# Altium footprint library con-thomas-betts.PCBLIB: 58 footprints (part 4 of 4)
Each footprint in its own frame and in the unit in brackets; x right, y up, seen from the top. Pads: shape width x height; smd on the part's side, far side on the other; paste and mask are expansions set on the pad; w line width, h text height; cw(c..) or ccw(c..) is an arc to the next point about the centre after c.
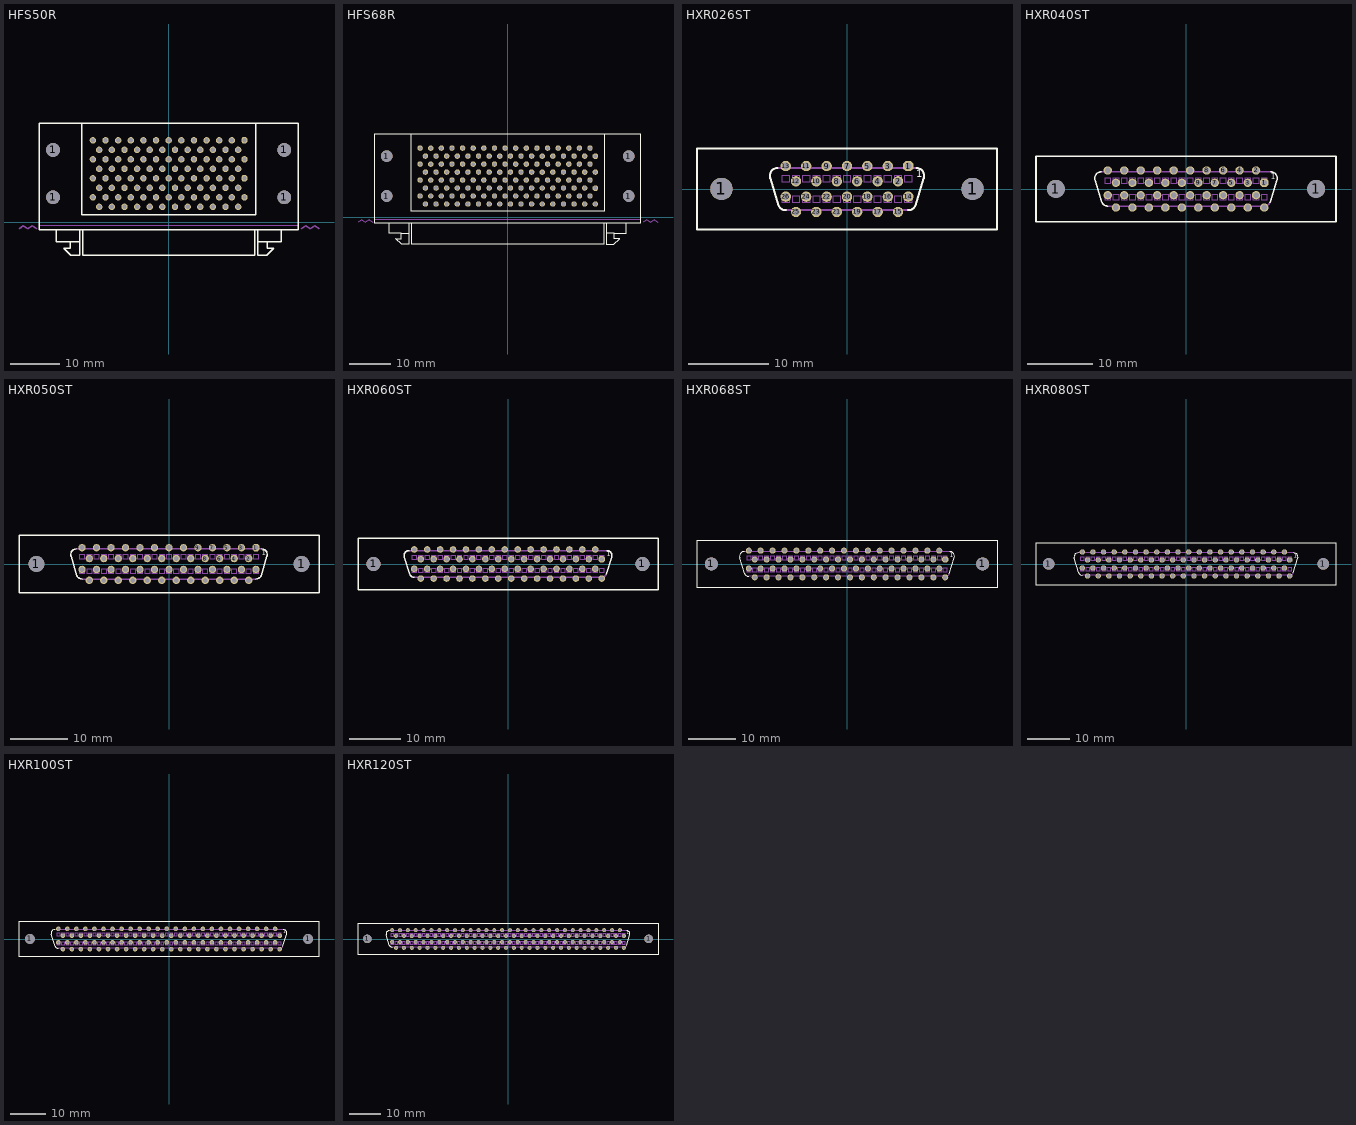
[diagram p3: the footprints below, top view; thin cyan lines are the x and y axes]

## HFS50R [mil]
pads (104):
  round 109 hole 109: 1(-915,198.82) 1(-915,574.8) 1(915,198.82) 1(915,574.8)
  oct 51x51 hole 34: 1-1(600,349.21) 2-1(600,650)
  round 51 hole 34: 1-2(550,274.02) 1-3(500,349.21) 1-4(450,274.02) 1-5(400,349.21) 1-6(350,274.02) 1-7(300,349.21) 1-8(250,274.02) 1-9(200,349.21) 1-10(150,274.02) 1-11(100,349.21) 1-12(50,274.02) 1-13(0,349.21) 1-14(-50,274.02) 1-15(-100,349.21) 1-16(-150,274.02) 1-17(-200,349.21) 1-18(-250,274.02) 1-19(-300,349.21) 1-20(-350,274.02) 1-21(-400,349.21) 1-22(-450,274.02) 1-23(-500,349.21) 1-24(-550,274.02) 1-25(-600,349.21) 1-26(600,198.82) 1-27(550,123.62) 1-28(500,198.82) 1-29(450,123.62) 1-30(400,198.82) 1-31(350,123.62) 1-32(300,198.82) 1-33(250,123.62) 1-34(200,198.82) 1-35(150,123.62) 1-36(100,198.82) 1-37(50,123.62) 1-38(0,198.82) 1-39(-50,123.62) 1-40(-100,198.82) 1-41(-150,123.62) 1-42(-200,198.82) 1-43(-250,123.62) 1-44(-300,198.82) 1-45(-350,123.62) 1-46(-400,198.82) 1-47(-450,123.62) 1-48(-500,198.82) 1-49(-550,123.62) 1-50(-600,198.82) 2-2(550,574.8) 2-3(500,650) 2-4(450,574.8) 2-5(400,650) 2-6(350,574.8) 2-7(300,650) 2-8(250,574.8) 2-9(200,650) 2-10(150,574.8) 2-11(100,650) 2-12(50,574.8) 2-13(0,650) 2-14(-50,574.8) 2-15(-100,650) 2-16(-150,574.8) 2-17(-200,650) 2-18(-250,574.8) 2-19(-300,650) 2-20(-350,574.8) 2-21(-400,650) 2-22(-450,574.8) 2-23(-500,650) 2-24(-550,574.8) 2-25(-600,650) 2-26(600,499.61) 2-27(550,424.41) 2-28(500,499.61) 2-29(450,424.41) 2-30(400,499.61) 2-31(350,424.41) 2-32(300,499.61) 2-33(250,424.41) 2-34(200,499.61) 2-35(150,424.41) 2-36(100,499.61) 2-37(50,424.41) 2-38(0,499.61) 2-39(-50,424.41) 2-40(-100,499.61) 2-41(-150,424.41) 2-42(-200,499.61) 2-43(-250,424.41) 2-44(-300,499.61) 2-45(-350,424.41) 2-46(-400,499.61) 2-47(-450,424.41) 2-48(-500,499.61) 2-49(-550,424.41) 2-50(-600,499.61)
Top Overlay:
  lines w10: -890,-62.5 -890,-152.5 -780,-152.5 ; -710,-152.5 -780,-152.5 ; -705,-62.5 -705,-257.5 -775,-257.5 -830,-202.5 -780,-202.5 -780,-152.5 ; -685,787.5 685,787.5 ; -680,-62.5 -680,-257.5 680,-257.5 680,-62.5 ; 705,-62.5 705,-257.5 775,-257.5 830,-202.5 780,-202.5 780,-152.5 ; 710,-152.5 780,-152.5 ; 890,-62.5 890,-152.5 780,-152.5 ; -1025,-57.5 1025,-57.5 1025,787.5 690,787.5 690,62.5 -690,62.5 -690,787.5 -1025,787.5 -1025,-57.5
Mechanical 13:
  lines w10: -1185,-50 -1150,-25 -1115,-50 -1080,-25 -1045,-50 ; 1050,-50 1085,-25 1120,-50 1155,-25 1190,-50
  text "PCB" at 1190,-62.5 h77.5
  text "PCB" at -1045,-62.5 h77.5
Mechanical 14:
  lines w0: -1025,-21 1020,-21

## HFS68R [mil]
pads (140):
  round 109 hole 109: 1(-1140,198.82) 1(-1140,574.8) 1(1140,198.82) 1(1140,574.8)
  oct 51x51 hole 34: 1-1(825,274.02) 2-1(825,574.8)
  round 51 hole 34: 1-2(775,349.21) 1-3(725,274.02) 1-4(675,349.21) 1-5(625,274.02) 1-6(575,349.21) 1-7(525,274.02) 1-8(475,349.21) 1-9(425,274.02) 1-10(375,349.21) 1-11(325,274.02) 1-12(275,349.21) 1-13(225,274.02) 1-14(175,349.21) 1-15(125,274.02) 1-16(75,349.21) 1-17(25,274.02) 1-18(-25,349.21) 1-19(-75,274.02) 1-20(-125,349.21) 1-21(-175,274.02) 1-22(-225,349.21) 1-23(-275,274.02) 1-24(-325,349.21) 1-25(-375,274.02) 1-26(-425,349.21) 1-27(-475,274.02) 1-28(-525,349.21) 1-29(-575,274.02) 1-30(-625,349.21) 1-31(-675,274.02) 1-32(-725,349.21) 1-33(-775,274.02) 1-34(-825,349.21) 1-35(825,123.62) 1-36(775,198.82) 1-37(725,123.62) 1-38(675,198.82) 1-39(625,123.62) 1-40(575,198.82) 1-41(525,123.62) 1-42(475,198.82) 1-43(425,123.62) 1-44(375,198.82) 1-45(325,123.62) 1-46(275,198.82) 1-47(225,123.62) 1-48(175,198.82) 1-49(125,123.62) 1-50(75,198.82) 1-51(25,123.62) 1-52(-25,198.82) 1-53(-75,123.62) 1-54(-125,198.82) 1-55(-175,123.62) 1-56(-225,198.82) 1-57(-275,123.62) 1-58(-325,198.82) 1-59(-375,123.62) 1-60(-425,198.82) 1-61(-475,123.62) 1-62(-525,198.82) 1-63(-575,123.62) 1-64(-625,198.82) 1-65(-675,123.62) 1-66(-725,198.82) 1-67(-775,123.62) 1-68(-825,198.82) 2-2(775,650) 2-3(725,574.8) 2-4(675,650) 2-5(625,574.8) 2-6(575,650) 2-7(525,574.8) 2-8(475,650) 2-9(425,574.8) 2-10(375,650) 2-11(325,574.8) 2-12(275,650) 2-13(225,574.8) 2-14(175,650) 2-15(125,574.8) 2-16(75,650) 2-17(25,574.8) 2-18(-25,650) 2-19(-75,574.8) 2-20(-125,650) 2-21(-175,574.8) 2-22(-225,650) 2-23(-275,574.8) 2-24(-325,650) 2-25(-375,574.8) 2-26(-425,650) 2-27(-475,574.8) 2-28(-525,650) 2-29(-575,574.8) 2-30(-625,650) 2-31(-675,574.8) 2-32(-725,650) 2-33(-775,574.8) 2-34(-825,650) 2-35(825,424.41) 2-36(775,499.61) 2-37(725,424.41) 2-38(675,499.61) 2-39(625,424.41) 2-40(575,499.61) 2-41(525,424.41) 2-42(475,499.61) 2-43(425,424.41) 2-44(375,499.61) 2-45(325,424.41) 2-46(275,499.61) 2-47(225,424.41) 2-48(175,499.61) 2-49(125,424.41) 2-50(75,499.61) 2-51(25,424.41) 2-52(-25,499.61) 2-53(-75,424.41) 2-54(-125,499.61) 2-55(-175,424.41) 2-56(-225,499.61) 2-57(-275,424.41) 2-58(-325,499.61) 2-59(-375,424.41) 2-60(-425,499.61) 2-61(-475,424.41) 2-62(-525,499.61) 2-63(-575,424.41) 2-64(-625,499.61) 2-65(-675,424.41) 2-66(-725,499.61) 2-67(-775,424.41) 2-68(-825,499.61)
Top Overlay:
  lines w10: -1115,-62.5 -1115,-152.5 -1005,-152.5 ; -935,-152.5 -1005,-152.5 ; -930,-62.5 -930,-257.5 -1000,-257.5 -1055,-202.5 -1005,-202.5 -1005,-152.5 ; -910,787.5 910,787.5 ; -905,-62.5 -905,-257.5 905,-257.5 905,-62.5 ; 930,-62.5 930,-257.5 1000,-257.5 1055,-202.5 1005,-202.5 1005,-152.5 ; 935,-152.5 1005,-152.5 ; 1115,-62.5 1115,-152.5 1005,-152.5 ; -1250,-57.5 1250,-57.5 1250,787.5 915,787.5 915,62.5 -915,62.5 -915,787.5 -1250,787.5 -1250,-57.5
Mechanical 13:
  lines w10: -1410,-50 -1375,-25 -1340,-50 -1305,-25 -1270,-50 ; 1275,-50 1310,-25 1345,-50 1380,-25 1415,-50
  text "PCB" at 1415,-62.5 h77.5
  text "PCB" at -1270,-62.5 h77.5
Mechanical 14:
  lines w0: -1250,-21 1245,-21

## HXR026ST [mil]
pads (28):
  round 109 hole 109: 1(-615,0.5) 1(615,0.5)
  oct 51x51 hole 34: 1(300,112.5)
  round 51 hole 34: 2(250,37.5) 3(200,112.5) 4(150,37.5) 5(100,112.5) 6(50,37.5) 7(0,112.5) 8(-50,37.5) 9(-100,112.5) 10(-150,37.5) 11(-200,112.5) 12(-250,37.5) 13(-300,112.5) 14(300,-37.5) 15(250,-112.5) 16(200,-37.5) 17(150,-112.5) 18(100,-37.5) 19(50,-112.5) 20(0,-37.5) 21(-50,-112.5) 22(-100,-37.5) 23(-150,-112.5) 24(-200,-37.5) 25(-250,-112.5) 26(-300,-37.5)
Top Overlay:
  lines w10: -340,104 ccw(c-339,64.85) -376,52 -335,-80 ccw(c-300.01,-66.5) -300,-104 ; 300,-104 ccw(c300.01,-66.5) 335,-80 376,52 ccw(c339,64.85) 340,104 ; -735,-199 735,-199 735,199 -735,199 -735,-199
  text "1" at 340,46 h62
Mechanical 16:
  lines w6: -319,-64 -281,-64 -281,-36 -319,-36 -319,-64 ; -319,36 -281,36 -281,64 -319,64 -319,36 ; -269,-64 -231,-64 -231,-36 -269,-36 -269,-64 ; -269,36 -231,36 -231,64 -269,64 -269,36 ; -219,-64 -181,-64 -181,-36 -219,-36 -219,-64 ; -219,36 -181,36 -181,64 -219,64 -219,36 ; -169,-64 -131,-64 -131,-36 -169,-36 -169,-64 ; -169,36 -131,36 -131,64 -169,64 -169,36 ; -119,-64 -81,-64 -81,-36 -119,-36 -119,-64 ; -119,36 -81,36 -81,64 -119,64 -119,36 ; -69,-64 -31,-64 -31,-36 -69,-36 -69,-64 ; -69,36 -31,36 -31,64 -69,64 -69,36 ; -19,-64 19,-64 19,-36 -19,-36 -19,-64 ; -19,36 19,36 19,64 -19,64 -19,36 ; 31,-64 69,-64 69,-36 31,-36 31,-64 ; 31,36 69,36 69,64 31,64 31,36 ; 81,-64 119,-64 119,-36 81,-36 81,-64 ; 81,36 119,36 119,64 81,64 81,36 ; 131,-64 169,-64 169,-36 131,-36 131,-64 ; 131,36 169,36 169,64 131,64 131,36 ; 181,-64 219,-64 219,-36 181,-36 181,-64 ; 181,36 219,36 219,64 181,64 181,36 ; 231,-64 269,-64 269,-36 231,-36 231,-64 ; 231,36 269,36 269,64 231,64 231,36 ; 281,-64 319,-64 319,-36 281,-36 281,-64 ; 281,36 319,36 319,64 281,64 281,36
  lines w10: -340,104 340,104 ; -300,-104 300,-104

## HXR040ST [mil]
pads (42):
  round 109 hole 109: 1(-790,0.5) 1(790,0.5)
  oct 51x51 hole 34: 1(475,37.5)
  round 51 hole 34: 2(425,112.5) 3(375,37.5) 4(325,112.5) 5(275,37.5) 6(225,112.5) 7(175,37.5) 8(125,112.5) 9(75,37.5) 10(25,112.5) 11(-25,37.5) 12(-75,112.5) 13(-125,37.5) 14(-175,112.5) 15(-225,37.5) 16(-275,112.5) 17(-325,37.5) 18(-375,112.5) 19(-425,37.5) 20(-475,112.5) 21(475,-112.5) 22(425,-37.5) 23(375,-112.5) 24(325,-37.5) 25(275,-112.5) 26(225,-37.5) 27(175,-112.5) 28(125,-37.5) 29(75,-112.5) 30(25,-37.5) 31(-25,-112.5) 32(-75,-37.5) 33(-125,-112.5) 34(-175,-37.5) 35(-225,-112.5) 36(-275,-37.5) 37(-325,-112.5) 38(-375,-37.5) 39(-425,-112.5) 40(-475,-37.5)
Top Overlay:
  lines w10: -515,104 ccw(c-514,64.85) -551,52 -510,-80 ccw(c-475.01,-66.5) -475,-104 ; 510,-80 551,52 ccw(c514,64.85) 515,104 ; -910,-199 910,-199 910,199 -910,199 -910,-199
  text "1" at 515,46 h62
Mechanical 13:
  text "SCSI" at 600,125 h77.5
Mechanical 16:
  drawing of 163 lines, arcs and shapes, not listed

## HXR050ST [mil]
pads (52):
  round 109 hole 109: 1(-915,0.5) 1(915,0.5)
  oct 51x51 hole 34: 1(600,112.5)
  round 51 hole 34: 2(550,37.5) 3(500,112.5) 4(450,37.5) 5(400,112.5) 6(350,37.5) 7(300,112.5) 8(250,37.5) 9(200,112.5) 10(150,37.5) 11(100,112.5) 12(50,37.5) 13(0,112.5) 14(-50,37.5) 15(-100,112.5) 16(-150,37.5) 17(-200,112.5) 18(-250,37.5) 19(-300,112.5) 20(-350,37.5) 21(-400,112.5) 22(-450,37.5) 23(-500,112.5) 24(-550,37.5) 25(-600,112.5) 26(600,-37.5) 27(550,-112.5) 28(500,-37.5) 29(450,-112.5) 30(400,-37.5) 31(350,-112.5) 32(300,-37.5) 33(250,-112.5) 34(200,-37.5) 35(150,-112.5) 36(100,-37.5) 37(50,-112.5) 38(0,-37.5) 39(-50,-112.5) 40(-100,-37.5) 41(-150,-112.5) 42(-200,-37.5) 43(-250,-112.5) 44(-300,-37.5) 45(-350,-112.5) 46(-400,-37.5) 47(-450,-112.5) 48(-500,-37.5) 49(-550,-112.5) 50(-600,-37.5)
Top Overlay:
  lines w10: -640,104 ccw(c-639,64.85) -676,52 -635,-80 ccw(c-600.01,-66.5) -600,-104 ; 600,-104 ccw(c600.01,-66.5) 635,-80 676,52 ccw(c639,64.85) 640,104 ; -1035,-199 1035,-199 1035,199 -1035,199 -1035,-199
  text "1" at 640,46 h62
Mechanical 16:
  drawing of 202 lines, arcs and shapes, not listed

## HXR060ST [mil]
pads (62):
  round 109 hole 109: 1(-1040,0.5) 1(1040,0.5)
  oct 51x51 hole 34: 1(725,37.5)
  round 51 hole 34: 2(675,112.5) 3(625,37.5) 4(575,112.5) 5(525,37.5) 6(475,112.5) 7(425,37.5) 8(375,112.5) 9(325,37.5) 10(275,112.5) 11(225,37.5) 12(175,112.5) 13(125,37.5) 14(75,112.5) 15(25,37.5) 16(-25,112.5) 17(-75,37.5) 18(-125,112.5) 19(-175,37.5) 20(-225,112.5) 21(-275,37.5) 22(-325,112.5) 23(-375,37.5) 24(-425,112.5) 25(-475,37.5) 26(-525,112.5) 27(-575,37.5) 28(-625,112.5) 29(-675,37.5) 30(-725,112.5) 31(725,-112.5) 32(675,-37.5) 33(625,-112.5) 34(575,-37.5) 35(525,-112.5) 36(475,-37.5) 37(425,-112.5) 38(375,-37.5) 39(325,-112.5) 40(275,-37.5) 41(225,-112.5) 42(175,-37.5) 43(125,-112.5) 44(75,-37.5) 45(25,-112.5) 46(-25,-37.5) 47(-75,-112.5) 48(-125,-37.5) 49(-175,-112.5) 50(-225,-37.5) 51(-275,-112.5) 52(-325,-37.5) 53(-375,-112.5) 54(-425,-37.5) 55(-475,-112.5) 56(-525,-37.5) 57(-575,-112.5) 58(-625,-37.5) 59(-675,-112.5) 60(-725,-37.5)
Top Overlay:
  lines w10: -765,104 ccw(c-764,64.85) -801,52 -760,-80 ccw(c-725.01,-66.5) -725,-104 ; 760,-80 801,52 ccw(c764,64.85) 765,104 ; -1160,-199 1160,-199 1160,199 -1160,199 -1160,-199
  text "1" at 765,46 h62
Mechanical 16:
  drawing of 243 lines, arcs and shapes, not listed

## HXR068ST [mil]
pads (70):
  round 109 hole 109: 1(-1140,0.5) 1(1140,0.5)
  oct 51x51 hole 34: 1(825,37.5)
  round 51 hole 34: 2(775,112.5) 3(725,37.5) 4(675,112.5) 5(625,37.5) 6(575,112.5) 7(525,37.5) 8(475,112.5) 9(425,37.5) 10(375,112.5) 11(325,37.5) 12(275,112.5) 13(225,37.5) 14(175,112.5) 15(125,37.5) 16(75,112.5) 17(25,37.5) 18(-25,112.5) 19(-75,37.5) 20(-125,112.5) 21(-175,37.5) 22(-225,112.5) 23(-275,37.5) 24(-325,112.5) 25(-375,37.5) 26(-425,112.5) 27(-475,37.5) 28(-525,112.5) 29(-575,37.5) 30(-625,112.5) 31(-675,37.5) 32(-725,112.5) 33(-775,37.5) 34(-825,112.5) 35(825,-112.5) 36(775,-37.5) 37(725,-112.5) 38(675,-37.5) 39(625,-112.5) 40(575,-37.5) 41(525,-112.5) 42(475,-37.5) 43(425,-112.5) 44(375,-37.5) 45(325,-112.5) 46(275,-37.5) 47(225,-112.5) 48(175,-37.5) 49(125,-112.5) 50(75,-37.5) 51(25,-112.5) 52(-25,-37.5) 53(-75,-112.5) 54(-125,-37.5) 55(-175,-112.5) 56(-225,-37.5) 57(-275,-112.5) 58(-325,-37.5) 59(-375,-112.5) 60(-425,-37.5) 61(-475,-112.5) 62(-525,-37.5) 63(-575,-112.5) 64(-625,-37.5) 65(-675,-112.5) 66(-725,-37.5) 67(-775,-112.5) 68(-825,-37.5)
Top Overlay:
  lines w10: -865,104 ccw(c-864,64.85) -901,52 -860,-80 ccw(c-825.01,-66.5) -825,-104 ; 860,-80 901,52 ccw(c864,64.85) 865,104 ; -1260,-199 1260,-199 1260,199 -1260,199 -1260,-199
  text "1" at 865,46 h62
Mechanical 16:
  drawing of 275 lines, arcs and shapes, not listed

## HXR080ST [mil]
pads (82):
  round 109 hole 109: 1(-1290,0.5) 1(1290,0.5)
  oct 51x51 hole 34: 1(975,37.5)
  round 51 hole 34: 2(925,112.5) 3(875,37.5) 4(825,112.5) 5(775,37.5) 6(725,112.5) 7(675,37.5) 8(625,112.5) 9(575,37.5) 10(525,112.5) 11(475,37.5) 12(425,112.5) 13(375,37.5) 14(325,112.5) 15(275,37.5) 16(225,112.5) 17(175,37.5) 18(125,112.5) 19(75,37.5) 20(25,112.5) 21(-25,37.5) 22(-75,112.5) 23(-125,37.5) 24(-175,112.5) 25(-225,37.5) 26(-275,112.5) 27(-325,37.5) 28(-375,112.5) 29(-425,37.5) 30(-475,112.5) 31(-525,37.5) 32(-575,112.5) 33(-625,37.5) 34(-675,112.5) 35(-725,37.5) 36(-775,112.5) 37(-825,37.5) 38(-875,112.5) 39(-925,37.5) 40(-975,112.5) 41(975,-112.5) 42(925,-37.5) 43(875,-112.5) 44(825,-37.5) 45(775,-112.5) 46(725,-37.5) 47(675,-112.5) 48(625,-37.5) 49(575,-112.5) 50(525,-37.5) 51(475,-112.5) 52(425,-37.5) 53(375,-112.5) 54(325,-37.5) 55(275,-112.5) 56(225,-37.5) 57(175,-112.5) 58(125,-37.5) 59(75,-112.5) 60(25,-37.5) 61(-25,-112.5) 62(-75,-37.5) 63(-125,-112.5) 64(-175,-37.5) 65(-225,-112.5) 66(-275,-37.5) 67(-325,-112.5) 68(-375,-37.5) 69(-425,-112.5) 70(-475,-37.5) 71(-525,-112.5) 72(-575,-37.5) 73(-625,-112.5) 74(-675,-37.5) 75(-725,-112.5) 76(-775,-37.5) 77(-825,-112.5) 78(-875,-37.5) 79(-925,-112.5) 80(-975,-37.5)
Top Overlay:
  lines w10: -1015,104 ccw(c-1014,64.85) -1051,52 -1010,-80 ccw(c-975.01,-66.5) -975,-104 ; 1010,-80 1051,52 ccw(c1014,64.85) 1015,104 ; -1410,-199 1410,-199 1410,199 -1410,199 -1410,-199
  text "1" at 1015,46 h62
Mechanical 16:
  drawing of 323 lines, arcs and shapes, not listed

## HXR100ST [mil]
pads (102):
  round 109 hole 109: 1(-1540,0.5) 1(1540,0.5)
  oct 51x51 hole 34: 1(1225,37.5)
  round 51 hole 34: 2(1175,112.5) 3(1125,37.5) 4(1075,112.5) 5(1025,37.5) 6(975,112.5) 7(925,37.5) 8(875,112.5) 9(825,37.5) 10(775,112.5) 11(725,37.5) 12(675,112.5) 13(625,37.5) 14(575,112.5) 15(525,37.5) 16(475,112.5) 17(425,37.5) 18(375,112.5) 19(325,37.5) 20(275,112.5) 21(225,37.5) 22(175,112.5) 23(125,37.5) 24(75,112.5) 25(25,37.5) 26(-25,112.5) 27(-75,37.5) 28(-125,112.5) 29(-175,37.5) 30(-225,112.5) 31(-275,37.5) 32(-325,112.5) 33(-375,37.5) 34(-425,112.5) 35(-475,37.5) 36(-525,112.5) 37(-575,37.5) 38(-625,112.5) 39(-675,37.5) 40(-725,112.5) 41(-775,37.5) 42(-825,112.5) 43(-875,37.5) 44(-925,112.5) 45(-975,37.5) 46(-1025,112.5) 47(-1075,37.5) 48(-1125,112.5) 49(-1175,37.5) 50(-1225,112.5) 51(1225,-112.5) 52(1175,-37.5) 53(1125,-112.5) 54(1075,-37.5) 55(1025,-112.5) 56(975,-37.5) 57(925,-112.5) 58(875,-37.5) 59(825,-112.5) 60(775,-37.5) 61(725,-112.5) 62(675,-37.5) 63(625,-112.5) 64(575,-37.5) 65(525,-112.5) 66(475,-37.5) 67(425,-112.5) 68(375,-37.5) 69(325,-112.5) 70(275,-37.5) 71(225,-112.5) 72(175,-37.5) 73(125,-112.5) 74(75,-37.5) 75(25,-112.5) 76(-25,-37.5) 77(-75,-112.5) 78(-125,-37.5) 79(-175,-112.5) 80(-225,-37.5) 81(-275,-112.5) 82(-325,-37.5) 83(-375,-112.5) 84(-425,-37.5) 85(-475,-112.5) 86(-525,-37.5) 87(-575,-112.5) 88(-625,-37.5) 89(-675,-112.5) 90(-725,-37.5) 91(-775,-112.5) 92(-825,-37.5) 93(-875,-112.5) 94(-925,-37.5) 95(-975,-112.5) 96(-1025,-37.5) 97(-1075,-112.5) 98(-1125,-37.5) 99(-1175,-112.5) 100(-1225,-37.5)
Top Overlay:
  lines w10: -1265,104 ccw(c-1264,64.85) -1301,52 -1260,-80 ccw(c-1225.01,-66.5) -1225,-104 ; 1260,-80 1301,52 ccw(c1264,64.85) 1265,104 ; -1660,-199 1660,-199 1660,199 -1660,199 -1660,-199
  text "1" at 1265,46 h62
Mechanical 16:
  drawing of 403 lines, arcs and shapes, not listed

## HXR120ST [mil]
pads (122):
  round 109 hole 109: 1(-1790,0.5) 1(1790,0.5)
  oct 51x51 hole 34: 1(1475,37.5)
  round 51 hole 34: 2(1425,112.5) 3(1375,37.5) 4(1325,112.5) 5(1275,37.5) 6(1225,112.5) 7(1175,37.5) 8(1125,112.5) 9(1075,37.5) 10(1025,112.5) 11(975,37.5) 12(925,112.5) 13(875,37.5) 14(825,112.5) 15(775,37.5) 16(725,112.5) 17(675,37.5) 18(625,112.5) 19(575,37.5) 20(525,112.5) 21(475,37.5) 22(425,112.5) 23(375,37.5) 24(325,112.5) 25(275,37.5) 26(225,112.5) 27(175,37.5) 28(125,112.5) 29(75,37.5) 30(25,112.5) 31(-25,37.5) 32(-75,112.5) 33(-125,37.5) 34(-175,112.5) 35(-225,37.5) 36(-275,112.5) 37(-325,37.5) 38(-375,112.5) 39(-425,37.5) 40(-475,112.5) 41(-525,37.5) 42(-575,112.5) 43(-625,37.5) 44(-675,112.5) 45(-725,37.5) 46(-775,112.5) 47(-825,37.5) 48(-875,112.5) 49(-925,37.5) 50(-975,112.5) 51(-1025,37.5) 52(-1075,112.5) 53(-1125,37.5) 54(-1175,112.5) 55(-1225,37.5) 56(-1275,112.5) 57(-1325,37.5) 58(-1375,112.5) 59(-1425,37.5) 60(-1475,112.5) 61(1475,-112.5) 62(1425,-37.5) 63(1375,-112.5) 64(1325,-37.5) 65(1275,-112.5) 66(1225,-37.5) 67(1175,-112.5) 68(1125,-37.5) 69(1075,-112.5) 70(1025,-37.5) 71(975,-112.5) 72(925,-37.5) 73(875,-112.5) 74(825,-37.5) 75(775,-112.5) 76(725,-37.5) 77(675,-112.5) 78(625,-37.5) 79(575,-112.5) 80(525,-37.5) 81(475,-112.5) 82(425,-37.5) 83(375,-112.5) 84(325,-37.5) 85(275,-112.5) 86(225,-37.5) 87(175,-112.5) 88(125,-37.5) 89(75,-112.5) 90(25,-37.5) 91(-25,-112.5) 92(-75,-37.5) 93(-125,-112.5) 94(-175,-37.5) 95(-225,-112.5) 96(-275,-37.5) 97(-325,-112.5) 98(-375,-37.5) 99(-425,-112.5) 100(-475,-37.5) 101(-525,-112.5) 102(-575,-37.5) 103(-625,-112.5) 104(-675,-37.5) 105(-725,-112.5) 106(-775,-37.5) 107(-825,-112.5) 108(-875,-37.5) 109(-925,-112.5) 110(-975,-37.5) 111(-1025,-112.5) 112(-1075,-37.5) 113(-1125,-112.5) 114(-1175,-37.5) 115(-1225,-112.5) 116(-1275,-37.5) 117(-1325,-112.5) 118(-1375,-37.5) 119(-1425,-112.5) 120(-1475,-37.5)
Top Overlay:
  lines w10: -1515,104 ccw(c-1514,64.85) -1551,52 -1510,-80 ccw(c-1475.01,-66.5) -1475,-104 ; 1510,-80 1551,52 ccw(c1514,64.85) 1515,104 ; -1910,-199 1910,-199 1910,199 -1910,199 -1910,-199
  text "1" at 1515,46 h62
Mechanical 16:
  drawing of 483 lines, arcs and shapes, not listed